# EAGLE library part MX23A40NF1 (library MX23A40NF1)
Compact automotive Connector, Low profil, Double fin structure, 040 contacts, waterproof, board-to-cable application, 40 pos., Right angle Pin header Source: Datasheet <https://www.jae.com/direct/topics/topics_file_download/topics_id=64777&ext_no=06&_lang=en&v=>
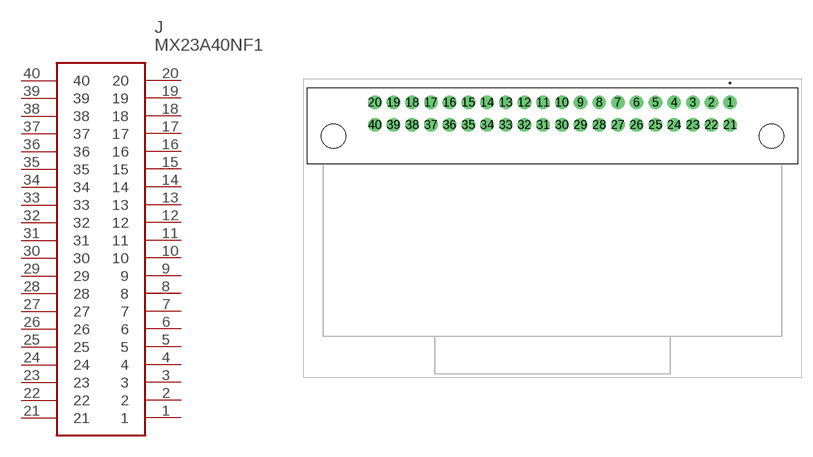
[diagram p0: symbol with the pads of MX23A40NF1; footprint MX23A40NF1]

Designator prefix J

## MX23A40NF1 (Description: Compact automotive Connector, Low profil, Double fin structure, 040 contacts, waterproof, board-to-cable application, 40 pos., Right angle Pin header; Height: 18.9mm; Manufacturer_Name: JAE; Manufacturer_Part_Number: MX23A40NF1; Mouser_Part_Number: 656-MX23A40NF1; Mouser_Price-Stock: https://www.mouser.co.uk/ProductDetail/JAE-Electronics/MX23A40NF1?qs=zwT864VV%2FIP%252BlXbBtrhgQg%3D%3D)  [MX23A40NF1]
1  1
2  2
3  3
4  4
5  5
6  6
7  7
8  8
9  9
10  10
11  11
12  12
13  13
14  14
15  15
16  16
17  17
18  18
19  19
20  20
21  21
22  22
23  23
24  24
25  25
26  26
27  27
28  28
29  29
30  30
31  31
32  32
33  33
34  34
35  35
36  36
37  37
38  38
39  39
40  40

## Footprint MX23A40NF1 (pad centres in mm)
MX23A40NF1-1
drill 1.2 pad 1.8: 1 0,0; 2 -2.5,0; 3 -5,0; 4 -7.5,0; 5 -10,0; 6 -12.5,0; 7 -15,0; 8 -17.5,0; 9 -20,0; 10 -22.5,0; 11 -25,0; 12 -27.5,0; 13 -30,0; 14 -32.5,0; 15 -35,0; 16 -37.5,0; 17 -40,0; 18 -42.5,0; 19 -45,0; 20 -47.5,0; 21 0,-3; 22 -2.5,-3; 23 -5,-3; 24 -7.5,-3; 25 -10,-3; 26 -12.5,-3; 27 -15,-3; 28 -17.5,-3; 29 -20,-3; 30 -22.5,-3; 31 -25,-3; 32 -27.5,-3; 33 -30,-3; 34 -32.5,-3; 35 -35,-3; 36 -37.5,-3; 37 -40,-3; 38 -42.5,-3; 39 -45,-3; 40 -47.5,-3
hole 3.25 at -53,-4.5
hole 3.25 at 5.5,-4.5